# Altium footprint library SMD_FBDs_Footprints.PcbLib: 2 footprints
Each footprint in its own frame and in the unit in brackets; x right, y up, seen from the top. Pads: shape width x height; smd on the part's side, far side on the other; paste and mask are expansions set on the pad; w line width, h text height; cw(c..) or ccw(c..) is an arc to the next point about the centre after c.
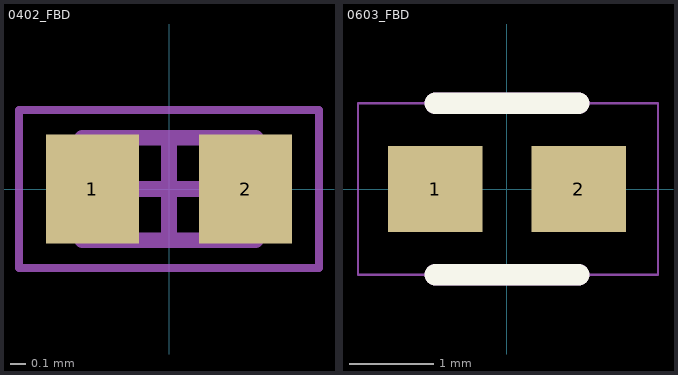
[diagram p0: the footprints below, top view; thin cyan lines are the x and y axes]

## 0402_FBD [mm] "Chip Inductor, 2-Leads, Body 1.00x0.55mm, IPC Medium Density"
height 0.6
pads (2):
  rect 0.59x0.69 smd: 1(-0.485,0) 2(0.485,0)
Top Assembly:
  lines w0.1: -0.55,-0.325 -0.55,0.325 0.55,0.325 0.55,-0.325 -0.55,-0.325
Mechanical 15:
  lines w0.05: -0.95,-0.5 -0.95,0.5 0.95,0.5 0.95,-0.5 -0.95,-0.5
  lines w0.1: -0.325,0 0.325,0 ; 0,-0.325 0,0.325
3D body: height 0.6, standoff 0, extent -0.55,-0.325 -0.32,0.325
3D body: height 0.6, standoff 0, extent 0.32,-0.325 0.55,0.325
3D body "L_0402_1005Metric.step": height 0.5, standoff 0, extent -0.5,-0.25 0.5,0.25

## 0603_FBD [mil]
pads (2):
  rect 44x40 smd: 1(-33.5,0) 2(33.5,0)
Top Overlay:
  lines w10: -33.5,-40 33.5,-40 ; -33.5,40 33.5,40
Top Assembly:
  lines w10: -33.5,-40 33.5,-40 ; -33.5,40 33.5,40
Mechanical 14:
  lines w10: -33.5,-40 33.5,-40 ; -33.5,40 33.5,40
Mechanical 20:
  lines w1: -69.5,-40 70.5,-40 70.5,40 -69.5,40 -69.5,-40
3D body "L_0603_1608Metric.step": height 31.5, standoff 0, extent -31.5,-15.75 31.5,15.75